# EAGLE library part L829-1J1T-43 (library con-bel-stewart)
MAG-JACK 1000 BASE-T
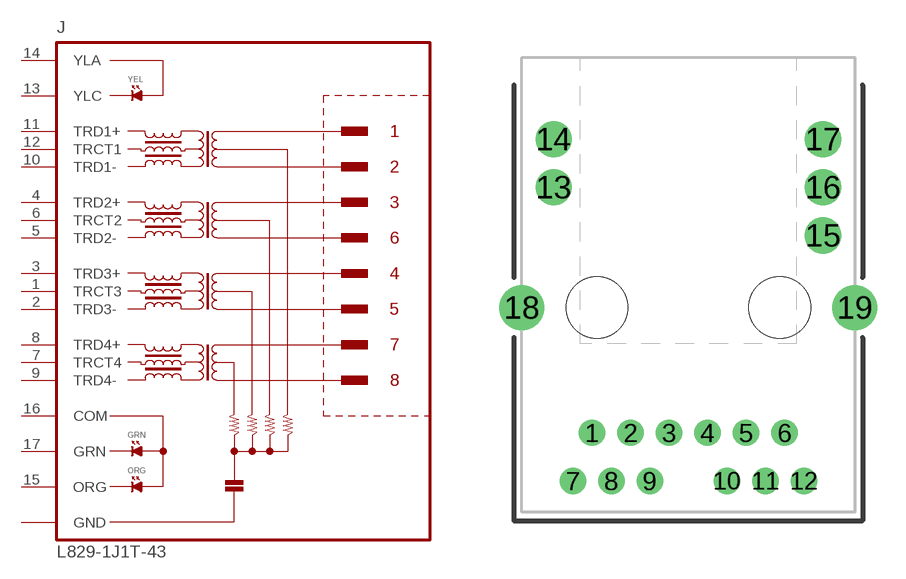
[diagram p2: symbol with the pads of L829-1J1T-43; footprint L829-1J1T-43]

Designator prefix J

## L829-1J1T-43  [L829-1J1T-43]
1  TRCT3  pas
2  TRD3-  pas
3  TRD3+  pas
4  TRD2+  pas
5  TRD2-  pas
6  TRCT2  pas
7  TRCT4  pas
8  TRD4+  pas
9  TRD4-  pas
10  TRD1-  pas
11  TRD1+  pas
12  TRCT1  pas
13  YLC  pas
14  YLA  pas
15  ORG  pas
16  COM  pas
17  GRN  pas
18  GND  pas
19  GND  pas

## Footprint L829-1J1T-43 (pad centres in mm)
MAG-JACK
drill 0.889: 1 -5.08,-6.604; 2 -3.048,-6.604; 3 -1.016,-6.604; 4 1.016,-6.604; 5 3.048,-6.604; 6 5.08,-6.604; 7 -6.096,-9.144; 8 -4.064,-9.144; 9 -2.032,-9.144; 10 2.032,-9.144; 11 4.064,-9.144; 12 6.096,-9.144
drill 1.27: 13 -7.112,6.35; 14 -7.112,8.89; 15 7.112,3.81; 16 7.112,6.35; 17 7.112,8.89
drill 1.575: 18 -8.788,0; 19 8.788,0
hole 3.251 at -4.826,0
hole 3.251 at 4.826,0